# Altium schematic symbol library FlexRay.SchLib: 1 symbol
Pins are listed as number, name and electrical type; pins without a type are passive.

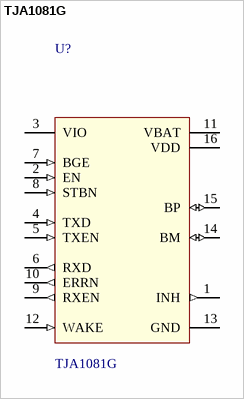
[diagram p0: symbol TJA1081G]

## TJA1081G
designator U?
value: TJA1081G
footprint SSOP-16 (SOT338-1) (SSOP, 16-Leads, Body 6,20x5,30mm, Pitch 0,65mm, IPC Medium Density)
pins: 1 INH (out) "inhibit output for switching external voltage regulator", 2 EN (in) "enable input; enabled when HIGH; internal pull-down", 3 VIO (power) "supply voltage for VIO voltage level adaptation", 4 TXD (in) "transmit data input; internal pull-down", 5 TXEN (in) "transmitter enable input; when HIGH transmitter disabled; internal", 6 RXD (out) "receive data output", 7 BGE (in) "bus guardian enable input; when LOW transmitter disabled", 8 STBN (in) "standby input; low-power mode when LOW; internal pull-down", 9 RXEN (out) "receive data enable output; when LOW bus activity detected", 10 ERRN (out) "error diagnoses output; when LOW error detected", 11 VBAT (power) "battery supply voltage", 12 WAKE (in) "local wake-up input", 13 GND (power), 14 BM (io) "bus line minus", 15 BP (io) "bus line plus", 16 VDD (power) "supply voltage (+5 V)"